# EAGLE library part LM1881 (library SmallRoomLabs)
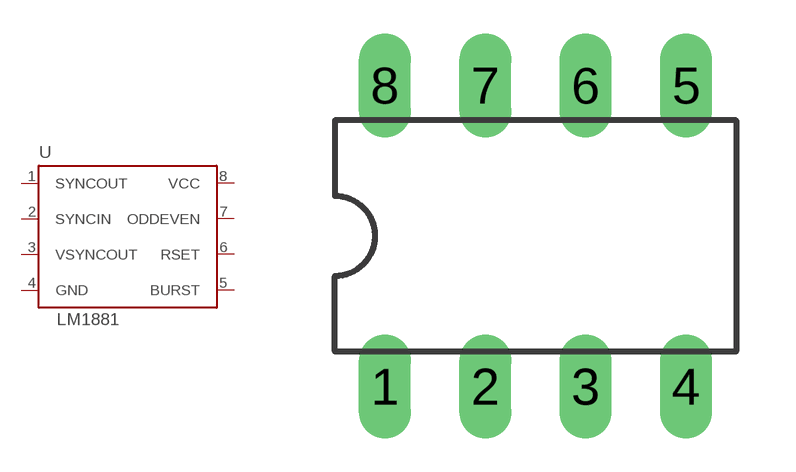
[diagram p17: symbol with the pads of DIL08-LONG; footprint DIL08-LONG]

Designator prefix -

## LM1881DIL8  [DIL08-LONG]
1  SYNCOUT  out
2  SYNCIN  in
3  VSYNCOUT  out
4  GND  pwr
5  BURST  out
6  RSET  out
7  ODDEVEN  out
8  VCC  pwr

## Footprint DIL08-LONG (pad centres in mm)
drill 0.813 long: 1 -3.81,-3.81; 2 -1.27,-3.81; 3 1.27,-3.81; 4 3.81,-3.81; 5 3.81,3.81; 6 1.27,3.81; 7 -1.27,3.81; 8 -3.81,3.81